# Altium schematic symbol library Nothing.SchLib: 1 symbol
Pins are listed as number, name and electrical type; pins without a type are passive.

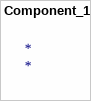
[diagram p0: symbol Component_1]

## Component_1
designator *
2.54mm Pitch SL Header, Single Row, Right Angle, 3.05mm Pocket, Shrouded, with Beveled Plastic Peg, 4 Circuits, Tin (Sn) Plating + SL Crimp Housing, Single Row, Version G, Positive Latch, 4 Circuits, Black